# Altium footprint library Generalfootprint.PcbLib: 3 footprints
Each footprint in its own frame and in the unit in brackets; x right, y up, seen from the top. Pads: shape width x height; smd on the part's side, far side on the other; paste and mask are expansions set on the pad; w line width, h text height; cw(c..) or ccw(c..) is an arc to the next point about the centre after c.
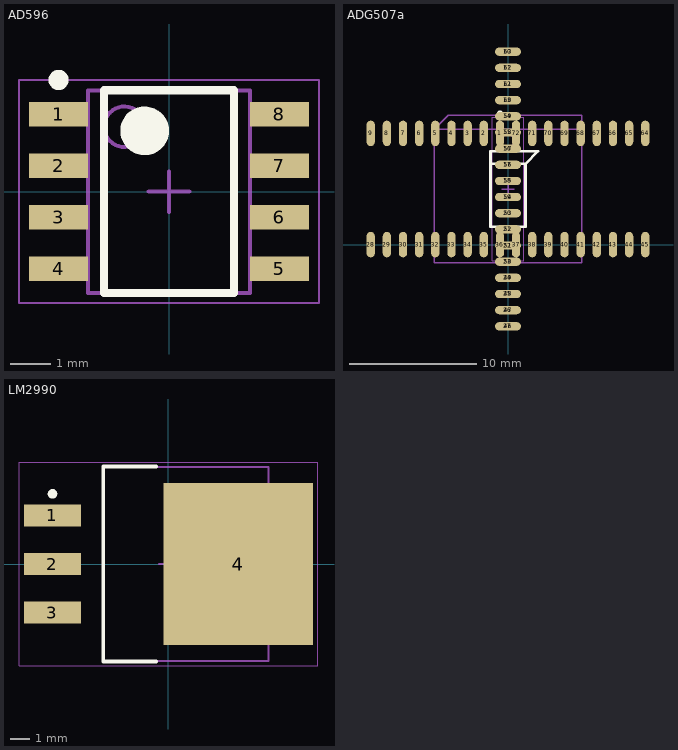
[diagram p0: the footprints below, top view; thin cyan lines are the x and y axes]

## AD596 [mm] "Thermocouple"
height 1.75
pads (8):
  rect 1.45x0.6 smd: 1(-2.725,1.905) 2(-2.725,0.635) 3(-2.725,-0.635) 4(-2.725,-1.905) 5(2.725,-1.905) 6(2.725,-0.635) 7(2.725,0.635) 8(2.725,1.905)
Top Overlay:
  circle w0.6: c-0.6,1.5 r0.3
  circle w0.25: c-2.725,2.755 r0.125
  lines w0.2: -1.6,-2.5 1.6,-2.5 1.6,2.5 -1.6,2.5 -1.6,-2.5
Mechanical 13:
  circle w0.1: c-1.1,1.6 r0.5
  lines w0.1: -2,-2.5 2,-2.5 2,2.5 -2,2.5 -2,-2.5
Mechanical 15:
  lines w0.05: -3.7,-2.75 3.7,-2.75 3.7,2.75 -3.7,2.75 -3.7,-2.75
  lines w0.1: -0.5,0 0.5,0 ; 0,-0.5 0,0.5
3D body: height 1.75, standoff 0.1, extent -2,-2.5 2,2.5

## ADG507a [mm] "Leaded Chip Analog Mux"
height 4.51
pads (72):
  oval 0.65x2 smd: 1(-0.66,8.75) 2(-1.93,8.75) 3(-3.2,8.75) 4(-4.47,8.75) 5(-5.74,8.75) 6(-7.01,8.75) 7(-8.28,8.75) 8(-9.55,8.75) 9(-10.82,8.75) 28(-10.82,0) 29(-9.55,0) 30(-8.28,0) 31(-7.01,0) 32(-5.74,0) 33(-4.47,0) 34(-3.2,0) 35(-1.93,0) 36(-0.66,0) 37(0.61,0) 38(1.88,0) 39(3.15,0) 40(4.42,0) 41(5.69,0) 42(6.96,0) 43(8.23,0) 44(9.5,0) 45(10.77,0) 64(10.77,8.75) 65(9.5,8.75) 66(8.23,8.75) 67(6.96,8.75) 68(5.69,8.75) 69(4.42,8.75) 70(3.15,8.75) 71(1.88,8.75) 72(0.61,8.75)
  oval 2x0.65 smd: 10(-0.05,15.17) 11(-0.05,13.9) 12(-0.05,12.63) 13(-0.05,11.36) 14(-0.05,10.09) 15(-0.05,8.82) 16(-0.05,7.55) 17(-0.05,6.28) 18(-0.05,5.01) 19(-0.05,3.74) 20(-0.05,2.47) 21(-0.05,1.2) 22(-0.05,-0.07) 23(-0.05,-1.34) 24(-0.05,-2.61) 25(-0.05,-3.88) 26(-0.05,-5.15) 27(-0.05,-6.42) 46(0,-6.42) 47(0,-5.15) 48(0,-3.88) 49(0,-2.61) 50(0,-1.34) 51(0,-0.07) 52(0,1.2) 53(0,2.47) 54(0,3.74) 55(0,5.01) 56(0,6.28) 57(0,7.55) 58(0,8.82) 59(0,10.09) 60(0,11.36) 61(0,12.63) 62(0,13.9) 63(0,15.17)
Top Overlay:
  circle w0.25: c-0.66,10.3 r0.125
  lines w0.2: -1.4,6.35 1.35,6.35 ; 1.35,6.35 1.35,1.4 -1.4,1.4 -1.4,7.35 2.35,7.35 1.35,6.35
Mechanical 13:
  circle w0.1: c-0.025,8.165 r0.5
  lines w0.1: 5.765,9.065 -5.815,9.065 ; -5.815,9.065 -4.715,10.165 5.765,10.165 5.765,-1.415 -5.815,-1.415 -5.815,9.065
Mechanical 15:
  lines w0.05: -1.275,-1.25 1.225,-1.25 1.225,10 -1.275,10 -1.275,-1.25
  lines w0.1: -0.525,4.375 0.475,4.375 ; -0.025,3.875 -0.025,4.875
3D body: height 4.51, standoff 3.04, extent -5.815,-1.415 5.765,10.165

## LM2990 [mm] "Voltage Regulator"
height 4.57
pads (4):
  rect 3x1.15 smd: 1(-6.05,2.54) 2(-6.05,0) 3(-6.05,-2.54)
  rect 7.8x8.45 smd: 4(3.65,0)
Top Overlay:
  circle w0.25: c-6.05,3.665 r0.125
  lines w0.2: -0.65,-5.1 -3.4,-5.1 -3.4,5.1 -0.65,5.1
Mechanical 13:
  lines w0.1: -3.4,-5.075 5.24,-5.075 5.24,5.075 -3.4,5.075 -3.4,-5.075
Mechanical 15:
  lines w0.05: -7.8,-5.325 7.8,-5.325 7.8,5.325 -7.8,5.325 -7.8,-5.325
  lines w0.1: -0.5,0 0.5,0 ; 0,-0.5 0,0.5
3D body: height 4.57, standoff 0, extent -3.4,-5.075 5.24,5.075